# Altium schematic symbol library capacitorsSMD.SchLib: 5 symbols
Pins are listed as number, name and electrical type; pins without a type are passive.

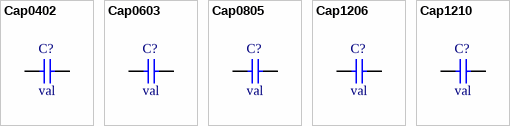
[diagram p0: symbols Cap0402 to Cap1210]

## Cap0402
designator C?  value val
Voltage: val
footprint CAP0402
pins: 1, 2

## Cap0603
designator C?  value val
Voltage: val
footprint CAP0603 (SMD Capacitor 0603)
pins: 1, 2

## Cap0805
designator C?  value val
Voltage: val
footprint CAP0805 (SMD Capacitor 0805)
pins: 1, 2

## Cap1206
designator C?  value val
Voltage: val
footprint CAPC3216M (Chip Capacitor, Body 3.2x1.6mm, IPC Low Density)
pins: 1, 2

## Cap1210
designator C?  value val
Voltage: val
footprint CAP1210 (MLCC Ceramic Capacitor 1210 (3.2 x 2.5 mm))
pins: 1, 2